# Altium footprint library TSOT23-5.PcbLib: 1 footprints
Each footprint in its own frame and in the unit in brackets; x right, y up, seen from the top. Pads: shape width x height; smd on the part's side, far side on the other; paste and mask are expansions set on the pad; w line width, h text height; cw(c..) or ccw(c..) is an arc to the next point about the centre after c.
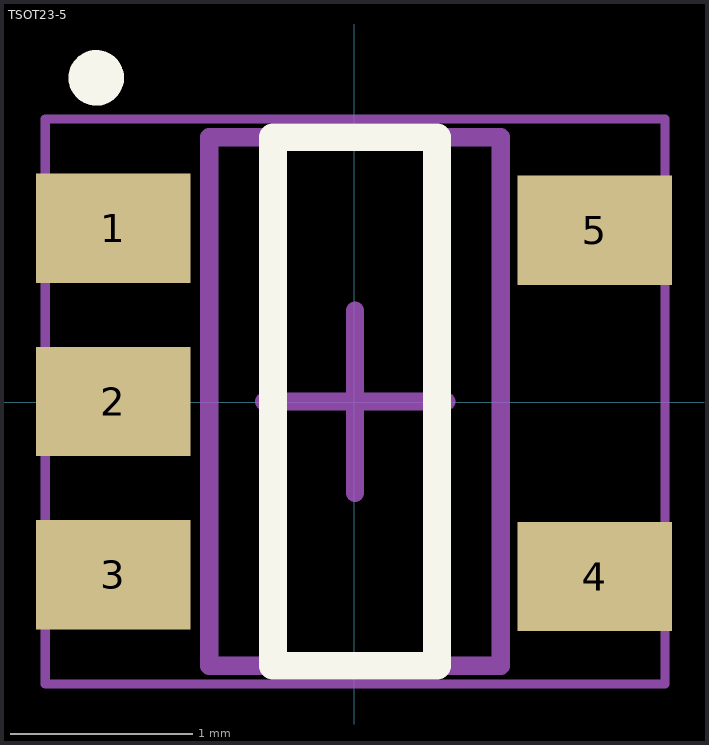
[diagram p0: the footprint, top view; thin cyan lines are the x and y axes]

## TSOT23-5 [mm] "SOT23, 5-Leads, Body 2.90x2.80mm, Pitch 95.00mm, IPC High Density"
height 1
pads (5):
  rect 0.85x0.6 smd: 1(-1.321,0.955) 2(-1.321,0.005) 3(-1.321,-0.945) 4(1.321,-0.955) 5(1.321,0.945)
Top Overlay:
  circle w0.152: c-1.414,1.781 r0.076
  lines w0.152: -0.444,-1.445 -0.444,1.455 0.456,1.455 0.456,-1.445 -0.444,-1.445
Mechanical 13:
  lines w0.1: -0.794,-1.445 0.806,-1.445 0.806,1.455 -0.794,1.455 -0.794,-1.445
Mechanical 15:
  lines w0.05: -1.694,-1.545 1.706,-1.545 1.706,1.555 -1.694,1.555 -1.694,-1.545
  lines w0.1: -0.494,0.005 0.506,0.005 ; 0.006,-0.495 0.006,0.505
3D body: height 0.94, standoff -0.02, extent -1.596,-1.443 1.595,1.457